# Altium integrated library TI Data Converters Digital to Analog Converter.IntLib: 1533 symbols (part 8 of 99)
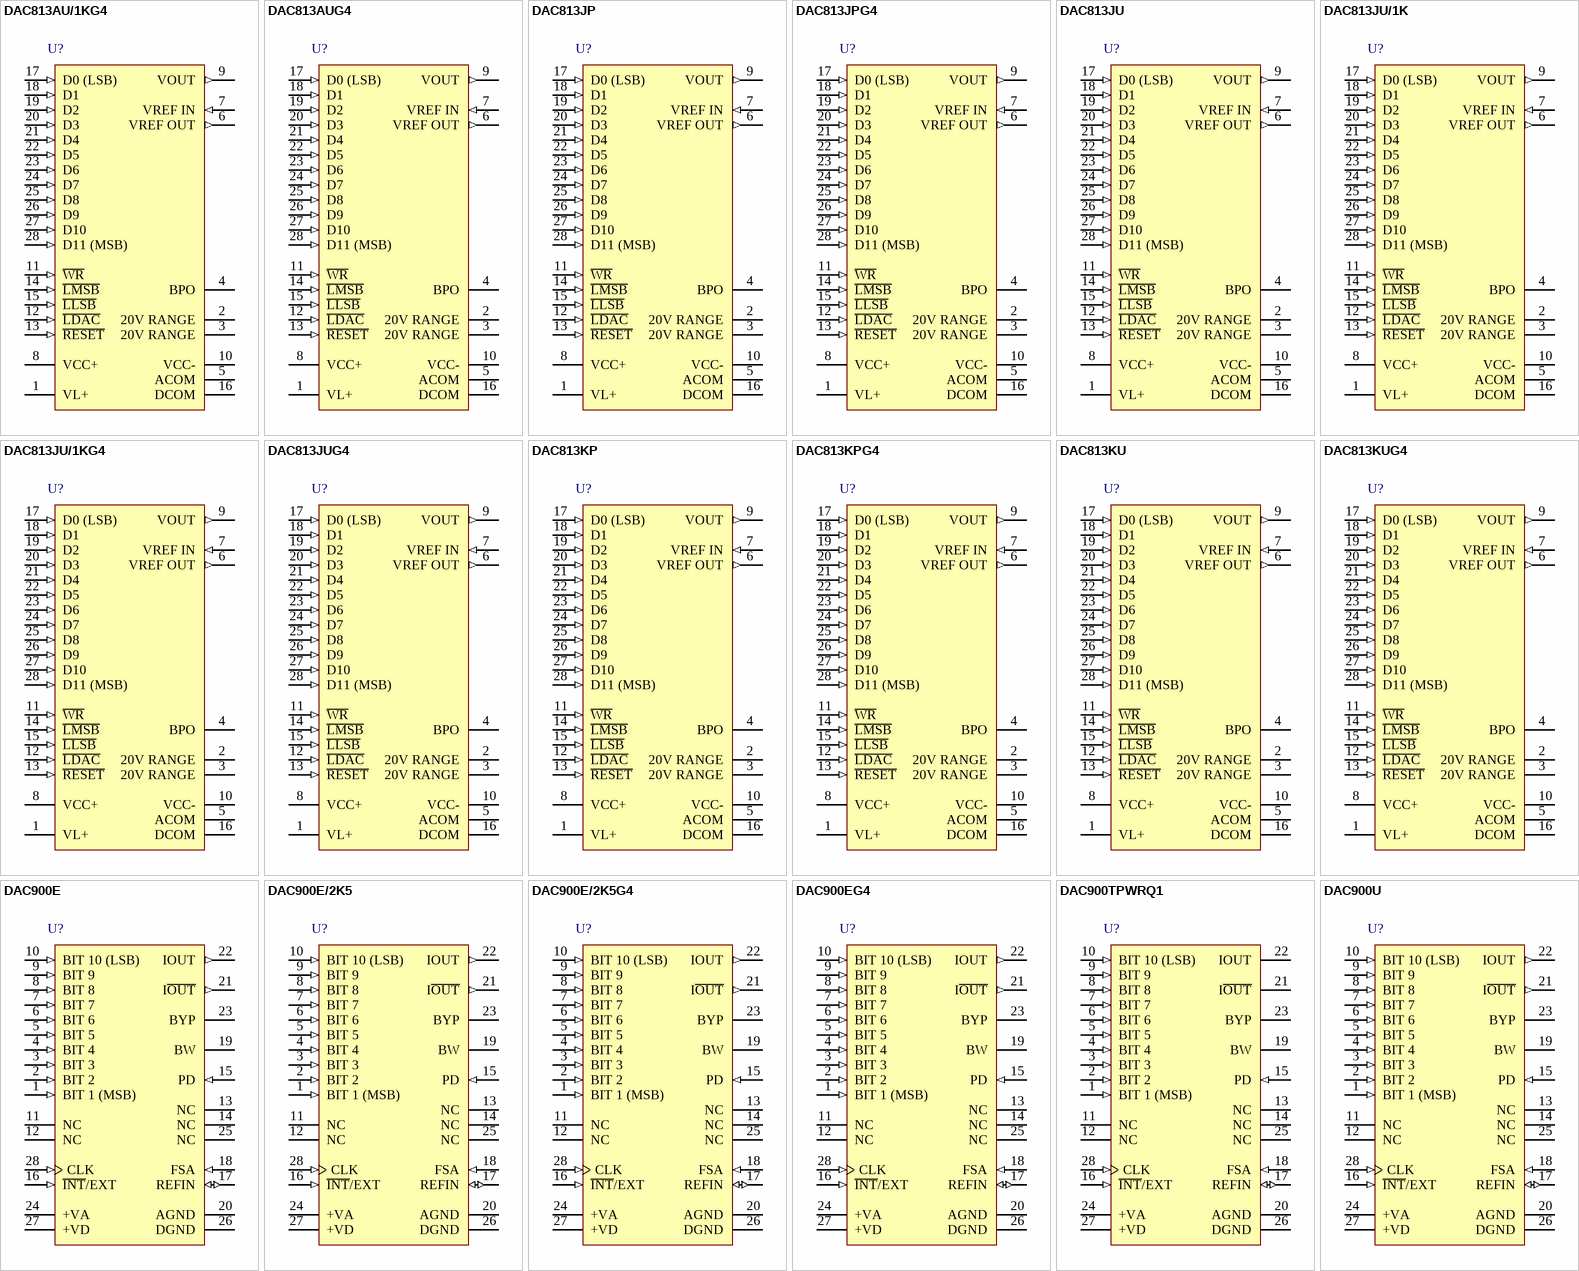
[diagram p80: symbols DAC813AU/1KG4 to DAC900U]

## DAC813AUG4
designator U?
Microprocessor-Compatible 12-Bit D/A Converter, -40 to 85 degC, 28-pin SOIC (DW28), Green (RoHS & no Sb/Br); Manufacturer: Texas Instruments; PartNumber: DAC813AUG4; DAC Channels: 1; DNL(Max)(+/-LSB): 0.75; INL(Max)(+/-LSB): 0.5; Interface: Parallel; Power Consumption(Typ)(mW): 270; Resolution(Bits): 12; Settling Time(us): 4; SubFamily: Precision DAC (=<10MSPS); DatasheetVersion: SBAS004; PackageVersion: 4040000-6/G, 01/2011; PackageReference: DW28; PackageDescription: 28-Pin Plastic Small Outline, Body 17.90 x 7.50 mm, Pitch 1.27 mm; Supplier 1: Digi-Key; Supplier Part Number 1: DAC813AUG4-ND; Supplier 2: Mouser; Supplier Part Number 2: 595-DAC813AUG4; Eco-Plan: Green (RoHS & no Sb/Br); Mounting Technology: Surface Mount; Code_JEDEC: MS-013; ComponentLink1Description: Manufacturer URL; ComponentLink1URL: http://www.ti.com/; ComponentLink2Description: Datasheet; ComponentLink2URL: http://www.ti.com/general/docs/lit/getliterature.tsp?genericPartNumber=DAC813&fileType=pdf; ComponentLink3Description: Package Specification; ComponentLink3URL: http://www.ti.com/lit/ml/mpds175a/mpds175a.pdf
footprint TI-DW28_N (SOIC, 28-Leads, Body 17.9x7.5mm, Pitch 1.27mm, IPC Medium Density)
footprint TI-DW28_L (SOIC, 28-Leads, Body 17.9x7.5mm, Pitch 1.27mm, IPC High Density)
footprint TI-DW28_M (SOIC, 28-Leads, Body 17.9x7.5mm, Pitch 1.27mm, IPC Low Density)
pins: 1 VL+ (power) "Positive supply pin for logic circuits. Connect to +VCC.", 2 20V RANGE "Connect Pin 2 or Pin 3 to Pin 9 (VOUT) for a 20V FSR. Connect both to Pin 9 for a 10V FSR.", 3 20V RANGE "Connect Pin 2 or Pin 3 to Pin 9 (VOUT) for a 20V FSR. Connect both to Pin 9 for a 10V FSR.", 4 BPO "Bipolar offset. Connect to Pin 6 (VREF OUT) through 100 Ohm resistor or 200 Ohm potentiometer for bipolar operation.", 5 ACOM (power) "Analog common, +/-VCC supply return.", 6 VREF OUT (out) "+10V reference output referred to ACOM.", 7 VREF IN (in) "Connected to VREF OUT through a 1kOhm gain adjustment potentiometer or a 500 Ohm resistor.", 8 VCC+ (power) "Analog supply input, nominally +12V to +15V referred to ACOM.", 9 VOUT (out) "D/A converter voltage output.", 10 VCC- (power) "Analog supply input, nominally -12V or -15V referred to ACOM.", 11 ~{WR} (in) "Master enable for L\D\A\C\, L\L\S\B\, and L\M\S\B\. Must be low for data transfer to any latch.", 12 ~{LDAC} (in) "Load DAC. Must be low with W\R\ for data transfer to the D/A latch and simultaneous update of the D/A converter.", 13 ~{RESET} (in) "When low, resets the D/A latch such that a Bipolar Zero output is produced. This control overrides all other data input operations.", 14 ~{LMSB} (in) "Enable for 4-bit input latch of D8-D11 data inputs. NOTE: This logic path is slower than the W\R\ path.", 15 ~{LLSB} (in) "Enable for 8-bit input latch of D0-D7 data inputs. NOTE: This logic path is slower than the W\R\ path.", 16 DCOM (power) "Digital common.", 17 D0 (LSB) (in) "Data Bit 1, LSB.", 18 D1 (in) "Data Bit 1.", 19 D2 (in) "Data Bit 2.", 20 D3 (in) "Data Bit 3.", 21 D4 (in) "Data Bit 4.", 22 D5 (in) "Data Bit 5.", 23 D6 (in) "Data Bit 6.", 24 D7 (in) "Data Bit 7.", 25 D8 (in) "Data Bit 8.", 26 D9 (in) "Data Bit 9.", 27 D10 (in) "Data Bit 10.", 28 D11 (MSB) (in) "Data Bit 11, MSB, positive true."

## DAC813JP
designator U?
Microprocessor-Compatible 12-Bit D/A Converter, 0 to 70 degC, 28-pin DIP (NT28), Green (RoHS & no Sb/Br); Manufacturer: Texas Instruments; PartNumber: DAC813JP; DAC Channels: 1; DNL(Max)(+/-LSB): 0.75; INL(Max)(+/-LSB): 0.5; Interface: Parallel; Power Consumption(Typ)(mW): 270; Resolution(Bits): 12; Settling Time(us): 4; SubFamily: Precision DAC (=<10MSPS); DatasheetVersion: SBAS004; PackageVersion: 4040050/C, 04/2009; PackageReference: NT28; PackageDescription: 28-Pin Plastic Dual-In-Line Package, Body 35.69 x 6.73 mm, Pitch 2.54 mm; Supplier 1: Digi-Key; Supplier Part Number 1: DAC813JP-ND; Supplier 2: Mouser; Supplier Part Number 2: 595-DAC813JP; Eco-Plan: Green (RoHS & no Sb/Br); Mounting Technology: Through Hole; ComponentLink1Description: Manufacturer URL; ComponentLink1URL: http://www.ti.com/; ComponentLink2Description: Datasheet; ComponentLink2URL: http://www.ti.com/general/docs/lit/getliterature.tsp?genericPartNumber=DAC813&fileType=pdf; ComponentLink3Description: Package Specification; ComponentLink3URL: http://www.ti.com/lit/ml/mpdi004a/mpdi004a.pdf
footprint TI-NT28 (DIP, 28-Leads, Body 35.69x6.73mm, Pitch 2.54mm)
pins: 1 VL+ (power) "Positive supply pin for logic circuits. Connect to +VCC.", 2 20V RANGE "Connect Pin 2 or Pin 3 to Pin 9 (VOUT) for a 20V FSR. Connect both to Pin 9 for a 10V FSR.", 3 20V RANGE "Connect Pin 2 or Pin 3 to Pin 9 (VOUT) for a 20V FSR. Connect both to Pin 9 for a 10V FSR.", 4 BPO "Bipolar offset. Connect to Pin 6 (VREF OUT) through 100 Ohm resistor or 200 Ohm potentiometer for bipolar operation.", 5 ACOM (power) "Analog common, +/-VCC supply return.", 6 VREF OUT (out) "+10V reference output referred to ACOM.", 7 VREF IN (in) "Connected to VREF OUT through a 1kOhm gain adjustment potentiometer or a 500 Ohm resistor.", 8 VCC+ (power) "Analog supply input, nominally +12V to +15V referred to ACOM.", 9 VOUT (out) "D/A converter voltage output.", 10 VCC- (power) "Analog supply input, nominally -12V or -15V referred to ACOM.", 11 ~{WR} (in) "Master enable for L\D\A\C\, L\L\S\B\, and L\M\S\B\. Must be low for data transfer to any latch.", 12 ~{LDAC} (in) "Load DAC. Must be low with W\R\ for data transfer to the D/A latch and simultaneous update of the D/A converter.", 13 ~{RESET} (in) "When low, resets the D/A latch such that a Bipolar Zero output is produced. This control overrides all other data input operations.", 14 ~{LMSB} (in) "Enable for 4-bit input latch of D8-D11 data inputs. NOTE: This logic path is slower than the W\R\ path.", 15 ~{LLSB} (in) "Enable for 8-bit input latch of D0-D7 data inputs. NOTE: This logic path is slower than the W\R\ path.", 16 DCOM (power) "Digital common.", 17 D0 (LSB) (in) "Data Bit 1, LSB.", 18 D1 (in) "Data Bit 1.", 19 D2 (in) "Data Bit 2.", 20 D3 (in) "Data Bit 3.", 21 D4 (in) "Data Bit 4.", 22 D5 (in) "Data Bit 5.", 23 D6 (in) "Data Bit 6.", 24 D7 (in) "Data Bit 7.", 25 D8 (in) "Data Bit 8.", 26 D9 (in) "Data Bit 9.", 27 D10 (in) "Data Bit 10.", 28 D11 (MSB) (in) "Data Bit 11, MSB, positive true."

## DAC813JPG4
designator U?
Microprocessor-Compatible 12-Bit D/A Converter, 0 to 70 degC, 28-pin DIP (NT28), Green (RoHS & no Sb/Br); Manufacturer: Texas Instruments; PartNumber: DAC813JPG4; DAC Channels: 1; DNL(Max)(+/-LSB): 0.75; INL(Max)(+/-LSB): 0.5; Interface: Parallel; Power Consumption(Typ)(mW): 270; Resolution(Bits): 12; Settling Time(us): 4; SubFamily: Precision DAC (=<10MSPS); DatasheetVersion: SBAS004; PackageVersion: 4040050/C, 04/2009; PackageReference: NT28; PackageDescription: 28-Pin Plastic Dual-In-Line Package, Body 35.69 x 6.73 mm, Pitch 2.54 mm; Supplier 1: Digi-Key; Supplier Part Number 1: DAC813JPG4-ND; Supplier 2: Mouser; Supplier Part Number 2: 595-DAC813JPG4; Eco-Plan: Green (RoHS & no Sb/Br); Mounting Technology: Through Hole; ComponentLink1Description: Manufacturer URL; ComponentLink1URL: http://www.ti.com/; ComponentLink2Description: Datasheet; ComponentLink2URL: http://www.ti.com/general/docs/lit/getliterature.tsp?genericPartNumber=DAC813&fileType=pdf; ComponentLink3Description: Package Specification; ComponentLink3URL: http://www.ti.com/lit/ml/mpdi004a/mpdi004a.pdf
footprint TI-NT28 (DIP, 28-Leads, Body 35.69x6.73mm, Pitch 2.54mm)
pins: 1 VL+ (power) "Positive supply pin for logic circuits. Connect to +VCC.", 2 20V RANGE "Connect Pin 2 or Pin 3 to Pin 9 (VOUT) for a 20V FSR. Connect both to Pin 9 for a 10V FSR.", 3 20V RANGE "Connect Pin 2 or Pin 3 to Pin 9 (VOUT) for a 20V FSR. Connect both to Pin 9 for a 10V FSR.", 4 BPO "Bipolar offset. Connect to Pin 6 (VREF OUT) through 100 Ohm resistor or 200 Ohm potentiometer for bipolar operation.", 5 ACOM (power) "Analog common, +/-VCC supply return.", 6 VREF OUT (out) "+10V reference output referred to ACOM.", 7 VREF IN (in) "Connected to VREF OUT through a 1kOhm gain adjustment potentiometer or a 500 Ohm resistor.", 8 VCC+ (power) "Analog supply input, nominally +12V to +15V referred to ACOM.", 9 VOUT (out) "D/A converter voltage output.", 10 VCC- (power) "Analog supply input, nominally -12V or -15V referred to ACOM.", 11 ~{WR} (in) "Master enable for L\D\A\C\, L\L\S\B\, and L\M\S\B\. Must be low for data transfer to any latch.", 12 ~{LDAC} (in) "Load DAC. Must be low with W\R\ for data transfer to the D/A latch and simultaneous update of the D/A converter.", 13 ~{RESET} (in) "When low, resets the D/A latch such that a Bipolar Zero output is produced. This control overrides all other data input operations.", 14 ~{LMSB} (in) "Enable for 4-bit input latch of D8-D11 data inputs. NOTE: This logic path is slower than the W\R\ path.", 15 ~{LLSB} (in) "Enable for 8-bit input latch of D0-D7 data inputs. NOTE: This logic path is slower than the W\R\ path.", 16 DCOM (power) "Digital common.", 17 D0 (LSB) (in) "Data Bit 1, LSB.", 18 D1 (in) "Data Bit 1.", 19 D2 (in) "Data Bit 2.", 20 D3 (in) "Data Bit 3.", 21 D4 (in) "Data Bit 4.", 22 D5 (in) "Data Bit 5.", 23 D6 (in) "Data Bit 6.", 24 D7 (in) "Data Bit 7.", 25 D8 (in) "Data Bit 8.", 26 D9 (in) "Data Bit 9.", 27 D10 (in) "Data Bit 10.", 28 D11 (MSB) (in) "Data Bit 11, MSB, positive true."

## DAC813JU
designator U?
Microprocessor-Compatible 12-Bit D/A Converter, 0 to 70 degC, 28-pin SOIC (DW28), Green (RoHS & no Sb/Br); Manufacturer: Texas Instruments; PartNumber: DAC813JU; DAC Channels: 1; DNL(Max)(+/-LSB): 0.75; INL(Max)(+/-LSB): 0.5; Interface: Parallel; Power Consumption(Typ)(mW): 270; Resolution(Bits): 12; Settling Time(us): 4; SubFamily: Precision DAC (=<10MSPS); DatasheetVersion: SBAS004; PackageVersion: 4040000-6/G, 01/2011; PackageReference: DW28; PackageDescription: 28-Pin Plastic Small Outline, Body 17.90 x 7.50 mm, Pitch 1.27 mm; Supplier 1: Digi-Key; Supplier Part Number 1: DAC813JU-ND; Supplier 2: Newark; Supplier Part Number 2: 96K4488; Supplier 3: Mouser; Supplier Part Number 3: 595-DAC813JU; Eco-Plan: Green (RoHS & no Sb/Br); Mounting Technology: Surface Mount; Code_JEDEC: MS-013; ComponentLink1Description: Manufacturer URL; ComponentLink1URL: http://www.ti.com/; ComponentLink2Description: Datasheet; ComponentLink2URL: http://www.ti.com/general/docs/lit/getliterature.tsp?genericPartNumber=DAC813&fileType=pdf; ComponentLink3Description: Package Specification; ComponentLink3URL: http://www.ti.com/lit/ml/mpds175a/mpds175a.pdf
footprint TI-DW28_N (SOIC, 28-Leads, Body 17.9x7.5mm, Pitch 1.27mm, IPC Medium Density)
footprint TI-DW28_L (SOIC, 28-Leads, Body 17.9x7.5mm, Pitch 1.27mm, IPC High Density)
footprint TI-DW28_M (SOIC, 28-Leads, Body 17.9x7.5mm, Pitch 1.27mm, IPC Low Density)
pins: 1 VL+ (power) "Positive supply pin for logic circuits. Connect to +VCC.", 2 20V RANGE "Connect Pin 2 or Pin 3 to Pin 9 (VOUT) for a 20V FSR. Connect both to Pin 9 for a 10V FSR.", 3 20V RANGE "Connect Pin 2 or Pin 3 to Pin 9 (VOUT) for a 20V FSR. Connect both to Pin 9 for a 10V FSR.", 4 BPO "Bipolar offset. Connect to Pin 6 (VREF OUT) through 100 Ohm resistor or 200 Ohm potentiometer for bipolar operation.", 5 ACOM (power) "Analog common, +/-VCC supply return.", 6 VREF OUT (out) "+10V reference output referred to ACOM.", 7 VREF IN (in) "Connected to VREF OUT through a 1kOhm gain adjustment potentiometer or a 500 Ohm resistor.", 8 VCC+ (power) "Analog supply input, nominally +12V to +15V referred to ACOM.", 9 VOUT (out) "D/A converter voltage output.", 10 VCC- (power) "Analog supply input, nominally -12V or -15V referred to ACOM.", 11 ~{WR} (in) "Master enable for L\D\A\C\, L\L\S\B\, and L\M\S\B\. Must be low for data transfer to any latch.", 12 ~{LDAC} (in) "Load DAC. Must be low with W\R\ for data transfer to the D/A latch and simultaneous update of the D/A converter.", 13 ~{RESET} (in) "When low, resets the D/A latch such that a Bipolar Zero output is produced. This control overrides all other data input operations.", 14 ~{LMSB} (in) "Enable for 4-bit input latch of D8-D11 data inputs. NOTE: This logic path is slower than the W\R\ path.", 15 ~{LLSB} (in) "Enable for 8-bit input latch of D0-D7 data inputs. NOTE: This logic path is slower than the W\R\ path.", 16 DCOM (power) "Digital common.", 17 D0 (LSB) (in) "Data Bit 1, LSB.", 18 D1 (in) "Data Bit 1.", 19 D2 (in) "Data Bit 2.", 20 D3 (in) "Data Bit 3.", 21 D4 (in) "Data Bit 4.", 22 D5 (in) "Data Bit 5.", 23 D6 (in) "Data Bit 6.", 24 D7 (in) "Data Bit 7.", 25 D8 (in) "Data Bit 8.", 26 D9 (in) "Data Bit 9.", 27 D10 (in) "Data Bit 10.", 28 D11 (MSB) (in) "Data Bit 11, MSB, positive true."

## DAC813JU/1K
designator U?
Microprocessor-Compatible 12-Bit D/A Converter, 0 to 70 degC, 28-pin SOIC (DW28), Green (RoHS & no Sb/Br); Manufacturer: Texas Instruments; PartNumber: DAC813JU/1K; DAC Channels: 1; DNL(Max)(+/-LSB): 0.75; INL(Max)(+/-LSB): 0.5; Interface: Parallel; Power Consumption(Typ)(mW): 270; Resolution(Bits): 12; Settling Time(us): 4; SubFamily: Precision DAC (=<10MSPS); DatasheetVersion: SBAS004; PackageVersion: 4040000-6/G, 01/2011; PackageReference: DW28; PackageDescription: 28-Pin Plastic Small Outline, Body 17.90 x 7.50 mm, Pitch 1.27 mm; Supplier 1: Digi-Key; Supplier Part Number 1: DAC813JU/1K-ND; Supplier 2: Mouser; Supplier Part Number 2: 595-DAC813JU/1K; Eco-Plan: Green (RoHS & no Sb/Br); Mounting Technology: Surface Mount; Code_JEDEC: MS-013; ComponentLink1Description: Manufacturer URL; ComponentLink1URL: http://www.ti.com/; ComponentLink2Description: Datasheet; ComponentLink2URL: http://www.ti.com/general/docs/lit/getliterature.tsp?genericPartNumber=DAC813&fileType=pdf; ComponentLink3Description: Package Specification; ComponentLink3URL: http://www.ti.com/lit/ml/mpds175a/mpds175a.pdf
footprint TI-DW28_N (SOIC, 28-Leads, Body 17.9x7.5mm, Pitch 1.27mm, IPC Medium Density)
footprint TI-DW28_L (SOIC, 28-Leads, Body 17.9x7.5mm, Pitch 1.27mm, IPC High Density)
footprint TI-DW28_M (SOIC, 28-Leads, Body 17.9x7.5mm, Pitch 1.27mm, IPC Low Density)
pins: 1 VL+ (power) "Positive supply pin for logic circuits. Connect to +VCC.", 2 20V RANGE "Connect Pin 2 or Pin 3 to Pin 9 (VOUT) for a 20V FSR. Connect both to Pin 9 for a 10V FSR.", 3 20V RANGE "Connect Pin 2 or Pin 3 to Pin 9 (VOUT) for a 20V FSR. Connect both to Pin 9 for a 10V FSR.", 4 BPO "Bipolar offset. Connect to Pin 6 (VREF OUT) through 100 Ohm resistor or 200 Ohm potentiometer for bipolar operation.", 5 ACOM (power) "Analog common, +/-VCC supply return.", 6 VREF OUT (out) "+10V reference output referred to ACOM.", 7 VREF IN (in) "Connected to VREF OUT through a 1kOhm gain adjustment potentiometer or a 500 Ohm resistor.", 8 VCC+ (power) "Analog supply input, nominally +12V to +15V referred to ACOM.", 9 VOUT (out) "D/A converter voltage output.", 10 VCC- (power) "Analog supply input, nominally -12V or -15V referred to ACOM.", 11 ~{WR} (in) "Master enable for L\D\A\C\, L\L\S\B\, and L\M\S\B\. Must be low for data transfer to any latch.", 12 ~{LDAC} (in) "Load DAC. Must be low with W\R\ for data transfer to the D/A latch and simultaneous update of the D/A converter.", 13 ~{RESET} (in) "When low, resets the D/A latch such that a Bipolar Zero output is produced. This control overrides all other data input operations.", 14 ~{LMSB} (in) "Enable for 4-bit input latch of D8-D11 data inputs. NOTE: This logic path is slower than the W\R\ path.", 15 ~{LLSB} (in) "Enable for 8-bit input latch of D0-D7 data inputs. NOTE: This logic path is slower than the W\R\ path.", 16 DCOM (power) "Digital common.", 17 D0 (LSB) (in) "Data Bit 1, LSB.", 18 D1 (in) "Data Bit 1.", 19 D2 (in) "Data Bit 2.", 20 D3 (in) "Data Bit 3.", 21 D4 (in) "Data Bit 4.", 22 D5 (in) "Data Bit 5.", 23 D6 (in) "Data Bit 6.", 24 D7 (in) "Data Bit 7.", 25 D8 (in) "Data Bit 8.", 26 D9 (in) "Data Bit 9.", 27 D10 (in) "Data Bit 10.", 28 D11 (MSB) (in) "Data Bit 11, MSB, positive true."

## DAC813JU/1KG4
designator U?
Microprocessor-Compatible 12-Bit D/A Converter, 0 to 70 degC, 28-pin SOIC (DW28), Green (RoHS & no Sb/Br); Manufacturer: Texas Instruments; PartNumber: DAC813JU/1KG4; DAC Channels: 1; DNL(Max)(+/-LSB): 0.75; INL(Max)(+/-LSB): 0.5; Interface: Parallel; Power Consumption(Typ)(mW): 270; Resolution(Bits): 12; Settling Time(us): 4; SubFamily: Precision DAC (=<10MSPS); DatasheetVersion: SBAS004; PackageVersion: 4040000-6/G, 01/2011; PackageReference: DW28; PackageDescription: 28-Pin Plastic Small Outline, Body 17.90 x 7.50 mm, Pitch 1.27 mm; Supplier 1: Digi-Key; Supplier Part Number 1: DAC813JU/1KG4-ND; Supplier 2: Mouser; Supplier Part Number 2: 595-DAC813JU/1KG4; Eco-Plan: Green (RoHS & no Sb/Br); Mounting Technology: Surface Mount; Code_JEDEC: MS-013; ComponentLink1Description: Manufacturer URL; ComponentLink1URL: http://www.ti.com/; ComponentLink2Description: Datasheet; ComponentLink2URL: http://www.ti.com/general/docs/lit/getliterature.tsp?genericPartNumber=DAC813&fileType=pdf; ComponentLink3Description: Package Specification; ComponentLink3URL: http://www.ti.com/lit/ml/mpds175a/mpds175a.pdf
footprint TI-DW28_N (SOIC, 28-Leads, Body 17.9x7.5mm, Pitch 1.27mm, IPC Medium Density)
footprint TI-DW28_L (SOIC, 28-Leads, Body 17.9x7.5mm, Pitch 1.27mm, IPC High Density)
footprint TI-DW28_M (SOIC, 28-Leads, Body 17.9x7.5mm, Pitch 1.27mm, IPC Low Density)
pins: 1 VL+ (power) "Positive supply pin for logic circuits. Connect to +VCC.", 2 20V RANGE "Connect Pin 2 or Pin 3 to Pin 9 (VOUT) for a 20V FSR. Connect both to Pin 9 for a 10V FSR.", 3 20V RANGE "Connect Pin 2 or Pin 3 to Pin 9 (VOUT) for a 20V FSR. Connect both to Pin 9 for a 10V FSR.", 4 BPO "Bipolar offset. Connect to Pin 6 (VREF OUT) through 100 Ohm resistor or 200 Ohm potentiometer for bipolar operation.", 5 ACOM (power) "Analog common, +/-VCC supply return.", 6 VREF OUT (out) "+10V reference output referred to ACOM.", 7 VREF IN (in) "Connected to VREF OUT through a 1kOhm gain adjustment potentiometer or a 500 Ohm resistor.", 8 VCC+ (power) "Analog supply input, nominally +12V to +15V referred to ACOM.", 9 VOUT (out) "D/A converter voltage output.", 10 VCC- (power) "Analog supply input, nominally -12V or -15V referred to ACOM.", 11 ~{WR} (in) "Master enable for L\D\A\C\, L\L\S\B\, and L\M\S\B\. Must be low for data transfer to any latch.", 12 ~{LDAC} (in) "Load DAC. Must be low with W\R\ for data transfer to the D/A latch and simultaneous update of the D/A converter.", 13 ~{RESET} (in) "When low, resets the D/A latch such that a Bipolar Zero output is produced. This control overrides all other data input operations.", 14 ~{LMSB} (in) "Enable for 4-bit input latch of D8-D11 data inputs. NOTE: This logic path is slower than the W\R\ path.", 15 ~{LLSB} (in) "Enable for 8-bit input latch of D0-D7 data inputs. NOTE: This logic path is slower than the W\R\ path.", 16 DCOM (power) "Digital common.", 17 D0 (LSB) (in) "Data Bit 1, LSB.", 18 D1 (in) "Data Bit 1.", 19 D2 (in) "Data Bit 2.", 20 D3 (in) "Data Bit 3.", 21 D4 (in) "Data Bit 4.", 22 D5 (in) "Data Bit 5.", 23 D6 (in) "Data Bit 6.", 24 D7 (in) "Data Bit 7.", 25 D8 (in) "Data Bit 8.", 26 D9 (in) "Data Bit 9.", 27 D10 (in) "Data Bit 10.", 28 D11 (MSB) (in) "Data Bit 11, MSB, positive true."

## DAC813JUG4
designator U?
Microprocessor-Compatible 12-Bit D/A Converter, 0 to 70 degC, 28-pin SOIC (DW28), Green (RoHS & no Sb/Br); Manufacturer: Texas Instruments; PartNumber: DAC813JUG4; DAC Channels: 1; DNL(Max)(+/-LSB): 0.75; INL(Max)(+/-LSB): 0.5; Interface: Parallel; Power Consumption(Typ)(mW): 270; Resolution(Bits): 12; Settling Time(us): 4; SubFamily: Precision DAC (=<10MSPS); DatasheetVersion: SBAS004; PackageVersion: 4040000-6/G, 01/2011; PackageReference: DW28; PackageDescription: 28-Pin Plastic Small Outline, Body 17.90 x 7.50 mm, Pitch 1.27 mm; Supplier 1: Digi-Key; Supplier Part Number 1: DAC813JUG4-ND; Supplier 2: Mouser; Supplier Part Number 2: 595-DAC813JUG4; Eco-Plan: Green (RoHS & no Sb/Br); Mounting Technology: Surface Mount; Code_JEDEC: MS-013; ComponentLink1Description: Manufacturer URL; ComponentLink1URL: http://www.ti.com/; ComponentLink2Description: Datasheet; ComponentLink2URL: http://www.ti.com/general/docs/lit/getliterature.tsp?genericPartNumber=DAC813&fileType=pdf; ComponentLink3Description: Package Specification; ComponentLink3URL: http://www.ti.com/lit/ml/mpds175a/mpds175a.pdf
footprint TI-DW28_N (SOIC, 28-Leads, Body 17.9x7.5mm, Pitch 1.27mm, IPC Medium Density)
footprint TI-DW28_L (SOIC, 28-Leads, Body 17.9x7.5mm, Pitch 1.27mm, IPC High Density)
footprint TI-DW28_M (SOIC, 28-Leads, Body 17.9x7.5mm, Pitch 1.27mm, IPC Low Density)
pins: 1 VL+ (power) "Positive supply pin for logic circuits. Connect to +VCC.", 2 20V RANGE "Connect Pin 2 or Pin 3 to Pin 9 (VOUT) for a 20V FSR. Connect both to Pin 9 for a 10V FSR.", 3 20V RANGE "Connect Pin 2 or Pin 3 to Pin 9 (VOUT) for a 20V FSR. Connect both to Pin 9 for a 10V FSR.", 4 BPO "Bipolar offset. Connect to Pin 6 (VREF OUT) through 100 Ohm resistor or 200 Ohm potentiometer for bipolar operation.", 5 ACOM (power) "Analog common, +/-VCC supply return.", 6 VREF OUT (out) "+10V reference output referred to ACOM.", 7 VREF IN (in) "Connected to VREF OUT through a 1kOhm gain adjustment potentiometer or a 500 Ohm resistor.", 8 VCC+ (power) "Analog supply input, nominally +12V to +15V referred to ACOM.", 9 VOUT (out) "D/A converter voltage output.", 10 VCC- (power) "Analog supply input, nominally -12V or -15V referred to ACOM.", 11 ~{WR} (in) "Master enable for L\D\A\C\, L\L\S\B\, and L\M\S\B\. Must be low for data transfer to any latch.", 12 ~{LDAC} (in) "Load DAC. Must be low with W\R\ for data transfer to the D/A latch and simultaneous update of the D/A converter.", 13 ~{RESET} (in) "When low, resets the D/A latch such that a Bipolar Zero output is produced. This control overrides all other data input operations.", 14 ~{LMSB} (in) "Enable for 4-bit input latch of D8-D11 data inputs. NOTE: This logic path is slower than the W\R\ path.", 15 ~{LLSB} (in) "Enable for 8-bit input latch of D0-D7 data inputs. NOTE: This logic path is slower than the W\R\ path.", 16 DCOM (power) "Digital common.", 17 D0 (LSB) (in) "Data Bit 1, LSB.", 18 D1 (in) "Data Bit 1.", 19 D2 (in) "Data Bit 2.", 20 D3 (in) "Data Bit 3.", 21 D4 (in) "Data Bit 4.", 22 D5 (in) "Data Bit 5.", 23 D6 (in) "Data Bit 6.", 24 D7 (in) "Data Bit 7.", 25 D8 (in) "Data Bit 8.", 26 D9 (in) "Data Bit 9.", 27 D10 (in) "Data Bit 10.", 28 D11 (MSB) (in) "Data Bit 11, MSB, positive true."

## DAC813KP
designator U?
Microprocessor-Compatible 12-Bit D/A Converter, 0 to 70 degC, 28-pin DIP (NT28), Green (RoHS & no Sb/Br); Manufacturer: Texas Instruments; PartNumber: DAC813KP; DAC Channels: 1; DNL(Max)(+/-LSB): 0.5; INL(Max)(+/-LSB): 0.25; Interface: Parallel; Power Consumption(Typ)(mW): 270; Resolution(Bits): 12; Settling Time(us): 4; SubFamily: Precision DAC (=<10MSPS); DatasheetVersion: SBAS004; PackageVersion: 4040050/C, 04/2009; PackageReference: NT28; PackageDescription: 28-Pin Plastic Dual-In-Line Package, Body 35.69 x 6.73 mm, Pitch 2.54 mm; Supplier 1: Digi-Key; Supplier Part Number 1: DAC813KP-ND; Supplier 2: Farnell; Supplier Part Number 2: 1460256; Supplier 3: Mouser; Supplier Part Number 3: 595-DAC813KP; Eco-Plan: Green (RoHS & no Sb/Br); Mounting Technology: Through Hole; ComponentLink1Description: Manufacturer URL; ComponentLink1URL: http://www.ti.com/; ComponentLink2Description: Datasheet; ComponentLink2URL: http://www.ti.com/general/docs/lit/getliterature.tsp?genericPartNumber=DAC813&fileType=pdf; ComponentLink3Description: Package Specification; ComponentLink3URL: http://www.ti.com/lit/ml/mpdi004a/mpdi004a.pdf
footprint TI-NT28 (DIP, 28-Leads, Body 35.69x6.73mm, Pitch 2.54mm)
pins: 1 VL+ (power) "Positive supply pin for logic circuits. Connect to +VCC.", 2 20V RANGE "Connect Pin 2 or Pin 3 to Pin 9 (VOUT) for a 20V FSR. Connect both to Pin 9 for a 10V FSR.", 3 20V RANGE "Connect Pin 2 or Pin 3 to Pin 9 (VOUT) for a 20V FSR. Connect both to Pin 9 for a 10V FSR.", 4 BPO "Bipolar offset. Connect to Pin 6 (VREF OUT) through 100 Ohm resistor or 200 Ohm potentiometer for bipolar operation.", 5 ACOM (power) "Analog common, +/-VCC supply return.", 6 VREF OUT (out) "+10V reference output referred to ACOM.", 7 VREF IN (in) "Connected to VREF OUT through a 1kOhm gain adjustment potentiometer or a 500 Ohm resistor.", 8 VCC+ (power) "Analog supply input, nominally +12V to +15V referred to ACOM.", 9 VOUT (out) "D/A converter voltage output.", 10 VCC- (power) "Analog supply input, nominally -12V or -15V referred to ACOM.", 11 ~{WR} (in) "Master enable for L\D\A\C\, L\L\S\B\, and L\M\S\B\. Must be low for data transfer to any latch.", 12 ~{LDAC} (in) "Load DAC. Must be low with W\R\ for data transfer to the D/A latch and simultaneous update of the D/A converter.", 13 ~{RESET} (in) "When low, resets the D/A latch such that a Bipolar Zero output is produced. This control overrides all other data input operations.", 14 ~{LMSB} (in) "Enable for 4-bit input latch of D8-D11 data inputs. NOTE: This logic path is slower than the W\R\ path.", 15 ~{LLSB} (in) "Enable for 8-bit input latch of D0-D7 data inputs. NOTE: This logic path is slower than the W\R\ path.", 16 DCOM (power) "Digital common.", 17 D0 (LSB) (in) "Data Bit 1, LSB.", 18 D1 (in) "Data Bit 1.", 19 D2 (in) "Data Bit 2.", 20 D3 (in) "Data Bit 3.", 21 D4 (in) "Data Bit 4.", 22 D5 (in) "Data Bit 5.", 23 D6 (in) "Data Bit 6.", 24 D7 (in) "Data Bit 7.", 25 D8 (in) "Data Bit 8.", 26 D9 (in) "Data Bit 9.", 27 D10 (in) "Data Bit 10.", 28 D11 (MSB) (in) "Data Bit 11, MSB, positive true."

## DAC813KPG4
designator U?
Microprocessor-Compatible 12-Bit D/A Converter, 0 to 70 degC, 28-pin DIP (NT28), Green (RoHS & no Sb/Br); Manufacturer: Texas Instruments; PartNumber: DAC813KPG4; DAC Channels: 1; DNL(Max)(+/-LSB): 0.5; INL(Max)(+/-LSB): 0.25; Interface: Parallel; Power Consumption(Typ)(mW): 270; Resolution(Bits): 12; Settling Time(us): 4; SubFamily: Precision DAC (=<10MSPS); DatasheetVersion: SBAS004; PackageVersion: 4040050/C, 04/2009; PackageReference: NT28; PackageDescription: 28-Pin Plastic Dual-In-Line Package, Body 35.69 x 6.73 mm, Pitch 2.54 mm; Supplier 1: Digi-Key; Supplier Part Number 1: DAC813KPG4-ND; Supplier 2: Mouser; Supplier Part Number 2: 595-DAC813KPG4; Eco-Plan: Green (RoHS & no Sb/Br); Mounting Technology: Through Hole; ComponentLink1Description: Manufacturer URL; ComponentLink1URL: http://www.ti.com/; ComponentLink2Description: Datasheet; ComponentLink2URL: http://www.ti.com/general/docs/lit/getliterature.tsp?genericPartNumber=DAC813&fileType=pdf; ComponentLink3Description: Package Specification; ComponentLink3URL: http://www.ti.com/lit/ml/mpdi004a/mpdi004a.pdf
footprint TI-NT28 (DIP, 28-Leads, Body 35.69x6.73mm, Pitch 2.54mm)
pins: 1 VL+ (power) "Positive supply pin for logic circuits. Connect to +VCC.", 2 20V RANGE "Connect Pin 2 or Pin 3 to Pin 9 (VOUT) for a 20V FSR. Connect both to Pin 9 for a 10V FSR.", 3 20V RANGE "Connect Pin 2 or Pin 3 to Pin 9 (VOUT) for a 20V FSR. Connect both to Pin 9 for a 10V FSR.", 4 BPO "Bipolar offset. Connect to Pin 6 (VREF OUT) through 100 Ohm resistor or 200 Ohm potentiometer for bipolar operation.", 5 ACOM (power) "Analog common, +/-VCC supply return.", 6 VREF OUT (out) "+10V reference output referred to ACOM.", 7 VREF IN (in) "Connected to VREF OUT through a 1kOhm gain adjustment potentiometer or a 500 Ohm resistor.", 8 VCC+ (power) "Analog supply input, nominally +12V to +15V referred to ACOM.", 9 VOUT (out) "D/A converter voltage output.", 10 VCC- (power) "Analog supply input, nominally -12V or -15V referred to ACOM.", 11 ~{WR} (in) "Master enable for L\D\A\C\, L\L\S\B\, and L\M\S\B\. Must be low for data transfer to any latch.", 12 ~{LDAC} (in) "Load DAC. Must be low with W\R\ for data transfer to the D/A latch and simultaneous update of the D/A converter.", 13 ~{RESET} (in) "When low, resets the D/A latch such that a Bipolar Zero output is produced. This control overrides all other data input operations.", 14 ~{LMSB} (in) "Enable for 4-bit input latch of D8-D11 data inputs. NOTE: This logic path is slower than the W\R\ path.", 15 ~{LLSB} (in) "Enable for 8-bit input latch of D0-D7 data inputs. NOTE: This logic path is slower than the W\R\ path.", 16 DCOM (power) "Digital common.", 17 D0 (LSB) (in) "Data Bit 1, LSB.", 18 D1 (in) "Data Bit 1.", 19 D2 (in) "Data Bit 2.", 20 D3 (in) "Data Bit 3.", 21 D4 (in) "Data Bit 4.", 22 D5 (in) "Data Bit 5.", 23 D6 (in) "Data Bit 6.", 24 D7 (in) "Data Bit 7.", 25 D8 (in) "Data Bit 8.", 26 D9 (in) "Data Bit 9.", 27 D10 (in) "Data Bit 10.", 28 D11 (MSB) (in) "Data Bit 11, MSB, positive true."

## DAC813KU
designator U?
Microprocessor-Compatible 12-Bit D/A Converter, 0 to 70 degC, 28-pin SOIC (DW28), Green (RoHS & no Sb/Br); Manufacturer: Texas Instruments; PartNumber: DAC813KU; DAC Channels: 1; DNL(Max)(+/-LSB): 0.5; INL(Max)(+/-LSB): 0.25; Interface: Parallel; Power Consumption(Typ)(mW): 270; Resolution(Bits): 12; Settling Time(us): 4; SubFamily: Precision DAC (=<10MSPS); DatasheetVersion: SBAS004; PackageVersion: 4040000-6/G, 01/2011; PackageReference: DW28; PackageDescription: 28-Pin Plastic Small Outline, Body 17.90 x 7.50 mm, Pitch 1.27 mm; Supplier 1: Digi-Key; Supplier Part Number 1: 296-24946-5-ND; Supplier 2: Mouser; Supplier Part Number 2: 595-DAC813KU; Eco-Plan: Green (RoHS & no Sb/Br); Mounting Technology: Surface Mount; Code_JEDEC: MS-013; ComponentLink1Description: Manufacturer URL; ComponentLink1URL: http://www.ti.com/; ComponentLink2Description: Datasheet; ComponentLink2URL: http://www.ti.com/general/docs/lit/getliterature.tsp?genericPartNumber=DAC813&fileType=pdf; ComponentLink3Description: Package Specification; ComponentLink3URL: http://www.ti.com/lit/ml/mpds175a/mpds175a.pdf
footprint TI-DW28_N (SOIC, 28-Leads, Body 17.9x7.5mm, Pitch 1.27mm, IPC Medium Density)
footprint TI-DW28_L (SOIC, 28-Leads, Body 17.9x7.5mm, Pitch 1.27mm, IPC High Density)
footprint TI-DW28_M (SOIC, 28-Leads, Body 17.9x7.5mm, Pitch 1.27mm, IPC Low Density)
pins: 1 VL+ (power) "Positive supply pin for logic circuits. Connect to +VCC.", 2 20V RANGE "Connect Pin 2 or Pin 3 to Pin 9 (VOUT) for a 20V FSR. Connect both to Pin 9 for a 10V FSR.", 3 20V RANGE "Connect Pin 2 or Pin 3 to Pin 9 (VOUT) for a 20V FSR. Connect both to Pin 9 for a 10V FSR.", 4 BPO "Bipolar offset. Connect to Pin 6 (VREF OUT) through 100 Ohm resistor or 200 Ohm potentiometer for bipolar operation.", 5 ACOM (power) "Analog common, +/-VCC supply return.", 6 VREF OUT (out) "+10V reference output referred to ACOM.", 7 VREF IN (in) "Connected to VREF OUT through a 1kOhm gain adjustment potentiometer or a 500 Ohm resistor.", 8 VCC+ (power) "Analog supply input, nominally +12V to +15V referred to ACOM.", 9 VOUT (out) "D/A converter voltage output.", 10 VCC- (power) "Analog supply input, nominally -12V or -15V referred to ACOM.", 11 ~{WR} (in) "Master enable for L\D\A\C\, L\L\S\B\, and L\M\S\B\. Must be low for data transfer to any latch.", 12 ~{LDAC} (in) "Load DAC. Must be low with W\R\ for data transfer to the D/A latch and simultaneous update of the D/A converter.", 13 ~{RESET} (in) "When low, resets the D/A latch such that a Bipolar Zero output is produced. This control overrides all other data input operations.", 14 ~{LMSB} (in) "Enable for 4-bit input latch of D8-D11 data inputs. NOTE: This logic path is slower than the W\R\ path.", 15 ~{LLSB} (in) "Enable for 8-bit input latch of D0-D7 data inputs. NOTE: This logic path is slower than the W\R\ path.", 16 DCOM (power) "Digital common.", 17 D0 (LSB) (in) "Data Bit 1, LSB.", 18 D1 (in) "Data Bit 1.", 19 D2 (in) "Data Bit 2.", 20 D3 (in) "Data Bit 3.", 21 D4 (in) "Data Bit 4.", 22 D5 (in) "Data Bit 5.", 23 D6 (in) "Data Bit 6.", 24 D7 (in) "Data Bit 7.", 25 D8 (in) "Data Bit 8.", 26 D9 (in) "Data Bit 9.", 27 D10 (in) "Data Bit 10.", 28 D11 (MSB) (in) "Data Bit 11, MSB, positive true."

## DAC813KUG4
designator U?
Microprocessor-Compatible 12-Bit D/A Converter, 0 to 70 degC, 28-pin SOIC (DW28), Green (RoHS & no Sb/Br); Manufacturer: Texas Instruments; PartNumber: DAC813KUG4; DAC Channels: 1; DNL(Max)(+/-LSB): 0.5; INL(Max)(+/-LSB): 0.25; Interface: Parallel; Power Consumption(Typ)(mW): 270; Resolution(Bits): 12; Settling Time(us): 4; SubFamily: Precision DAC (=<10MSPS); DatasheetVersion: SBAS004; PackageVersion: 4040000-6/G, 01/2011; PackageReference: DW28; PackageDescription: 28-Pin Plastic Small Outline, Body 17.90 x 7.50 mm, Pitch 1.27 mm; Supplier 1: Digi-Key; Supplier Part Number 1: DAC813KUG4-ND; Supplier 2: Mouser; Supplier Part Number 2: 595-DAC813KUG4; Eco-Plan: Green (RoHS & no Sb/Br); Mounting Technology: Surface Mount; Code_JEDEC: MS-013; ComponentLink1Description: Manufacturer URL; ComponentLink1URL: http://www.ti.com/; ComponentLink2Description: Datasheet; ComponentLink2URL: http://www.ti.com/general/docs/lit/getliterature.tsp?genericPartNumber=DAC813&fileType=pdf; ComponentLink3Description: Package Specification; ComponentLink3URL: http://www.ti.com/lit/ml/mpds175a/mpds175a.pdf
footprint TI-DW28_N (SOIC, 28-Leads, Body 17.9x7.5mm, Pitch 1.27mm, IPC Medium Density)
footprint TI-DW28_L (SOIC, 28-Leads, Body 17.9x7.5mm, Pitch 1.27mm, IPC High Density)
footprint TI-DW28_M (SOIC, 28-Leads, Body 17.9x7.5mm, Pitch 1.27mm, IPC Low Density)
pins: 1 VL+ (power) "Positive supply pin for logic circuits. Connect to +VCC.", 2 20V RANGE "Connect Pin 2 or Pin 3 to Pin 9 (VOUT) for a 20V FSR. Connect both to Pin 9 for a 10V FSR.", 3 20V RANGE "Connect Pin 2 or Pin 3 to Pin 9 (VOUT) for a 20V FSR. Connect both to Pin 9 for a 10V FSR.", 4 BPO "Bipolar offset. Connect to Pin 6 (VREF OUT) through 100 Ohm resistor or 200 Ohm potentiometer for bipolar operation.", 5 ACOM (power) "Analog common, +/-VCC supply return.", 6 VREF OUT (out) "+10V reference output referred to ACOM.", 7 VREF IN (in) "Connected to VREF OUT through a 1kOhm gain adjustment potentiometer or a 500 Ohm resistor.", 8 VCC+ (power) "Analog supply input, nominally +12V to +15V referred to ACOM.", 9 VOUT (out) "D/A converter voltage output.", 10 VCC- (power) "Analog supply input, nominally -12V or -15V referred to ACOM.", 11 ~{WR} (in) "Master enable for L\D\A\C\, L\L\S\B\, and L\M\S\B\. Must be low for data transfer to any latch.", 12 ~{LDAC} (in) "Load DAC. Must be low with W\R\ for data transfer to the D/A latch and simultaneous update of the D/A converter.", 13 ~{RESET} (in) "When low, resets the D/A latch such that a Bipolar Zero output is produced. This control overrides all other data input operations.", 14 ~{LMSB} (in) "Enable for 4-bit input latch of D8-D11 data inputs. NOTE: This logic path is slower than the W\R\ path.", 15 ~{LLSB} (in) "Enable for 8-bit input latch of D0-D7 data inputs. NOTE: This logic path is slower than the W\R\ path.", 16 DCOM (power) "Digital common.", 17 D0 (LSB) (in) "Data Bit 1, LSB.", 18 D1 (in) "Data Bit 1.", 19 D2 (in) "Data Bit 2.", 20 D3 (in) "Data Bit 3.", 21 D4 (in) "Data Bit 4.", 22 D5 (in) "Data Bit 5.", 23 D6 (in) "Data Bit 6.", 24 D7 (in) "Data Bit 7.", 25 D8 (in) "Data Bit 8.", 26 D9 (in) "Data Bit 9.", 27 D10 (in) "Data Bit 10.", 28 D11 (MSB) (in) "Data Bit 11, MSB, positive true."

## DAC900E
designator U?
10-Bit, 165 MSPS SpeedPlus(TM) DAC Scalable Current Outputs between 2 to 20 mA, -40 to 85 degC, 28-pin SOP (PW28), Green (RoHS & no Sb/Br); Manufacturer: Texas Instruments; PartNumber: DAC900E; DAC Channels: 1; DNL(Max)(+/-LSB): 0.5; Interface: Parallel CMOS; Power Consumption(Typ)(mW): 170; Resolution(Bits): 10; Settling Time(us): 0.03; SFDR(dB): 76; SubFamily: High Speed DAC (>10MSPS); DatasheetVersion: SBAS093B; PackageVersion: 4040064-7/G, 02/2011; PackageReference: PW28; PackageDescription: 28-Pin Plastic Small Outline, Body 9.7 x 4.4 mm, Pitch 0.65 mm; Supplier 1: Digi-Key; Supplier Part Number 1: DAC900E-ND; Supplier 2: Farnell; Supplier Part Number 2: 1295978; Supplier 3: Newark; Supplier Part Number 3: 74C9305; Supplier 4: Mouser; Supplier Part Number 4: 595-DAC900E; Eco-Plan: Green (RoHS & no Sb/Br); INL(Max)(+/-LSB): 1; Mounting Technology: Surface Mount; Code_JEDEC: MO-153; ComponentLink1Description: Manufacturer URL; ComponentLink1URL: http://www.ti.com/; ComponentLink2Description: Datasheet; ComponentLink2URL: http://www.ti.com/general/docs/lit/getliterature.tsp?genericPartNumber=DAC900&fileType=pdf; ComponentLink3Description: Package Specification; ComponentLink3URL: http://www.ti.com/litv/pdf/mpds364
footprint TI-PW28_N (SOP, 28-Leads, Body 9.7x4.4mm, Pitch 0.65mm, IPC Medium Density)
footprint TI-PW28_L (SOP, 28-Leads, Body 9.7x4.4mm, Pitch 0.65mm, IPC High Density)
footprint TI-PW28_M (SOP, 28-Leads, Body 9.7x4.4mm, Pitch 0.65mm, IPC Low Density)
pins: 1 BIT 1 (MSB) (in) "Data Bit 1 (D9), MSB", 2 BIT 2 (in) "Data Bit 2 (D8)", 3 BIT 3 (in) "Data Bit 3 (D7)", 4 BIT 4 (in) "Data Bit 4 (D6)", 5 BIT 5 (in) "Data Bit 5 (D5)", 6 BIT 6 (in) "Data Bit 6 (D4)", 7 BIT 7 (in) "Data Bit 7 (D3)", 8 BIT 8 (in) "Data Bit 8 (D2)", 9 BIT 9 (in) "Data Bit 9 (D1)", 10 BIT 10 (LSB) (in) "Data Bit 10 (D0), LSB", 11 NC "No Connection", 12 NC "No Connection", 13 NC "No Connection", 14 NC "No Connection", 15 PD (in) "Power Down, Control Input; Active HIGH. Contains internal pull-down circuit; may be left unconnected if not used.", 16 ~{INT}/EXT (in) "Reference Select Pin; Internal ( = 0) or External ( = 1) Reference Operation.", 17 REFIN (io) "Reference Input/Ouput. See Applications section for further details.", 18 FSA (in) "Full-Scale Output Adjust", 19 BW "Bandwidth/Noise Reduction Pin: Bypass with 0.1uF to +VA  for Optimum Performance.", 20 AGND (power) "Analog Ground", 21 I~{OUT} (out) "Complementary DAC Current Output", 22 IOUT (out) "DAC Current Output", 23 BYP "Bypass Node: Use 0.1uF to AGND", 24 +VA (power) "Analog Supply Voltage, 2.7V to 5.5V", 25 NC "No Connection", 26 DGND (power) "Digital Ground", 27 +VD (power) "Digital Supply Voltage, 2.7V to 5.5V", 28 CLK (in) "Clock Input"

## DAC900E/2K5
designator U?
10-Bit, 165 MSPS SpeedPlus(TM) DAC Scalable Current Outputs between 2 to 20 mA, -40 to 85 degC, 28-pin SOP (PW28), Green (RoHS & no Sb/Br); Manufacturer: Texas Instruments; PartNumber: DAC900E/2K5; DAC Channels: 1; DNL(Max)(+/-LSB): 0.5; Interface: Parallel CMOS; Power Consumption(Typ)(mW): 170; Resolution(Bits): 10; Settling Time(us): 0.03; SFDR(dB): 76; SubFamily: High Speed DAC (>10MSPS); DatasheetVersion: SBAS093B; PackageVersion: 4040064-7/G, 02/2011; PackageReference: PW28; PackageDescription: 28-Pin Plastic Small Outline, Body 9.7 x 4.4 mm, Pitch 0.65 mm; Supplier 1: Digi-Key; Supplier Part Number 1: DAC900E/2K5-ND; Supplier 2: Mouser; Supplier Part Number 2: 595-DAC900E/2K5; Eco-Plan: Green (RoHS & no Sb/Br); INL(Max)(+/-LSB): 1; Mounting Technology: Surface Mount; Code_JEDEC: MO-153; ComponentLink1Description: Manufacturer URL; ComponentLink1URL: http://www.ti.com/; ComponentLink2Description: Datasheet; ComponentLink2URL: http://www.ti.com/general/docs/lit/getliterature.tsp?genericPartNumber=DAC900&fileType=pdf; ComponentLink3Description: Package Specification; ComponentLink3URL: http://www.ti.com/litv/pdf/mpds364
footprint TI-PW28_N (SOP, 28-Leads, Body 9.7x4.4mm, Pitch 0.65mm, IPC Medium Density)
footprint TI-PW28_L (SOP, 28-Leads, Body 9.7x4.4mm, Pitch 0.65mm, IPC High Density)
footprint TI-PW28_M (SOP, 28-Leads, Body 9.7x4.4mm, Pitch 0.65mm, IPC Low Density)
pins: 1 BIT 1 (MSB) (in) "Data Bit 1 (D9), MSB", 2 BIT 2 (in) "Data Bit 2 (D8)", 3 BIT 3 (in) "Data Bit 3 (D7)", 4 BIT 4 (in) "Data Bit 4 (D6)", 5 BIT 5 (in) "Data Bit 5 (D5)", 6 BIT 6 (in) "Data Bit 6 (D4)", 7 BIT 7 (in) "Data Bit 7 (D3)", 8 BIT 8 (in) "Data Bit 8 (D2)", 9 BIT 9 (in) "Data Bit 9 (D1)", 10 BIT 10 (LSB) (in) "Data Bit 10 (D0), LSB", 11 NC "No Connection", 12 NC "No Connection", 13 NC "No Connection", 14 NC "No Connection", 15 PD (in) "Power Down, Control Input; Active HIGH. Contains internal pull-down circuit; may be left unconnected if not used.", 16 ~{INT}/EXT (in) "Reference Select Pin; Internal ( = 0) or External ( = 1) Reference Operation.", 17 REFIN (io) "Reference Input/Ouput. See Applications section for further details.", 18 FSA (in) "Full-Scale Output Adjust", 19 BW "Bandwidth/Noise Reduction Pin: Bypass with 0.1uF to +VA  for Optimum Performance.", 20 AGND (power) "Analog Ground", 21 I~{OUT} (out) "Complementary DAC Current Output", 22 IOUT (out) "DAC Current Output", 23 BYP "Bypass Node: Use 0.1uF to AGND", 24 +VA (power) "Analog Supply Voltage, 2.7V to 5.5V", 25 NC "No Connection", 26 DGND (power) "Digital Ground", 27 +VD (power) "Digital Supply Voltage, 2.7V to 5.5V", 28 CLK (in) "Clock Input"

## DAC900E/2K5G4
designator U?
10-Bit, 165 MSPS SpeedPlus(TM) DAC Scalable Current Outputs between 2 to 20 mA, -40 to 85 degC, 28-pin SOP (PW28), Green (RoHS & no Sb/Br); Manufacturer: Texas Instruments; PartNumber: DAC900E/2K5G4; DAC Channels: 1; DNL(Max)(+/-LSB): 0.5; Interface: Parallel CMOS; Power Consumption(Typ)(mW): 170; Resolution(Bits): 10; Settling Time(us): 0.03; SFDR(dB): 76; SubFamily: High Speed DAC (>10MSPS); DatasheetVersion: SBAS093B; PackageVersion: 4040064-7/G, 02/2011; PackageReference: PW28; PackageDescription: 28-Pin Plastic Small Outline, Body 9.7 x 4.4 mm, Pitch 0.65 mm; Supplier 1: Digi-Key; Supplier Part Number 1: DAC900E/2K5G4-ND; Supplier 2: Mouser; Supplier Part Number 2: 595-DAC900E/2K5G4; Eco-Plan: Green (RoHS & no Sb/Br); INL(Max)(+/-LSB): 1; Mounting Technology: Surface Mount; Code_JEDEC: MO-153; ComponentLink1Description: Manufacturer URL; ComponentLink1URL: http://www.ti.com/; ComponentLink2Description: Datasheet; ComponentLink2URL: http://www.ti.com/general/docs/lit/getliterature.tsp?genericPartNumber=DAC900&fileType=pdf; ComponentLink3Description: Package Specification; ComponentLink3URL: http://www.ti.com/litv/pdf/mpds364
footprint TI-PW28_N (SOP, 28-Leads, Body 9.7x4.4mm, Pitch 0.65mm, IPC Medium Density)
footprint TI-PW28_L (SOP, 28-Leads, Body 9.7x4.4mm, Pitch 0.65mm, IPC High Density)
footprint TI-PW28_M (SOP, 28-Leads, Body 9.7x4.4mm, Pitch 0.65mm, IPC Low Density)
pins: 1 BIT 1 (MSB) (in) "Data Bit 1 (D9), MSB", 2 BIT 2 (in) "Data Bit 2 (D8)", 3 BIT 3 (in) "Data Bit 3 (D7)", 4 BIT 4 (in) "Data Bit 4 (D6)", 5 BIT 5 (in) "Data Bit 5 (D5)", 6 BIT 6 (in) "Data Bit 6 (D4)", 7 BIT 7 (in) "Data Bit 7 (D3)", 8 BIT 8 (in) "Data Bit 8 (D2)", 9 BIT 9 (in) "Data Bit 9 (D1)", 10 BIT 10 (LSB) (in) "Data Bit 10 (D0), LSB", 11 NC "No Connection", 12 NC "No Connection", 13 NC "No Connection", 14 NC "No Connection", 15 PD (in) "Power Down, Control Input; Active HIGH. Contains internal pull-down circuit; may be left unconnected if not used.", 16 ~{INT}/EXT (in) "Reference Select Pin; Internal ( = 0) or External ( = 1) Reference Operation.", 17 REFIN (io) "Reference Input/Ouput. See Applications section for further details.", 18 FSA (in) "Full-Scale Output Adjust", 19 BW "Bandwidth/Noise Reduction Pin: Bypass with 0.1uF to +VA  for Optimum Performance.", 20 AGND (power) "Analog Ground", 21 I~{OUT} (out) "Complementary DAC Current Output", 22 IOUT (out) "DAC Current Output", 23 BYP "Bypass Node: Use 0.1uF to AGND", 24 +VA (power) "Analog Supply Voltage, 2.7V to 5.5V", 25 NC "No Connection", 26 DGND (power) "Digital Ground", 27 +VD (power) "Digital Supply Voltage, 2.7V to 5.5V", 28 CLK (in) "Clock Input"

## DAC900EG4
designator U?
10-Bit, 165 MSPS SpeedPlus(TM) DAC Scalable Current Outputs between 2 to 20 mA, -40 to 85 degC, 28-pin SOP (PW28), Green (RoHS & no Sb/Br); Manufacturer: Texas Instruments; PartNumber: DAC900EG4; DAC Channels: 1; DNL(Max)(+/-LSB): 0.5; Interface: Parallel CMOS; Power Consumption(Typ)(mW): 170; Resolution(Bits): 10; Settling Time(us): 0.03; SFDR(dB): 76; SubFamily: High Speed DAC (>10MSPS); DatasheetVersion: SBAS093B; PackageVersion: 4040064-7/G, 02/2011; PackageReference: PW28; PackageDescription: 28-Pin Plastic Small Outline, Body 9.7 x 4.4 mm, Pitch 0.65 mm; Supplier 1: Digi-Key; Supplier Part Number 1: DAC900EG4-ND; Supplier 2: Newark; Supplier Part Number 2: 53K9306; Supplier 3: Mouser; Supplier Part Number 3: 595-DAC900EG4; Eco-Plan: Green (RoHS & no Sb/Br); INL(Max)(+/-LSB): 1; Mounting Technology: Surface Mount; Code_JEDEC: MO-153; ComponentLink1Description: Manufacturer URL; ComponentLink1URL: http://www.ti.com/; ComponentLink2Description: Datasheet; ComponentLink2URL: http://www.ti.com/general/docs/lit/getliterature.tsp?genericPartNumber=DAC900&fileType=pdf; ComponentLink3Description: Package Specification; ComponentLink3URL: http://www.ti.com/litv/pdf/mpds364
footprint TI-PW28_N (SOP, 28-Leads, Body 9.7x4.4mm, Pitch 0.65mm, IPC Medium Density)
footprint TI-PW28_L (SOP, 28-Leads, Body 9.7x4.4mm, Pitch 0.65mm, IPC High Density)
footprint TI-PW28_M (SOP, 28-Leads, Body 9.7x4.4mm, Pitch 0.65mm, IPC Low Density)
pins: 1 BIT 1 (MSB) (in) "Data Bit 1 (D9), MSB", 2 BIT 2 (in) "Data Bit 2 (D8)", 3 BIT 3 (in) "Data Bit 3 (D7)", 4 BIT 4 (in) "Data Bit 4 (D6)", 5 BIT 5 (in) "Data Bit 5 (D5)", 6 BIT 6 (in) "Data Bit 6 (D4)", 7 BIT 7 (in) "Data Bit 7 (D3)", 8 BIT 8 (in) "Data Bit 8 (D2)", 9 BIT 9 (in) "Data Bit 9 (D1)", 10 BIT 10 (LSB) (in) "Data Bit 10 (D0), LSB", 11 NC "No Connection", 12 NC "No Connection", 13 NC "No Connection", 14 NC "No Connection", 15 PD (in) "Power Down, Control Input; Active HIGH. Contains internal pull-down circuit; may be left unconnected if not used.", 16 ~{INT}/EXT (in) "Reference Select Pin; Internal ( = 0) or External ( = 1) Reference Operation.", 17 REFIN (io) "Reference Input/Ouput. See Applications section for further details.", 18 FSA (in) "Full-Scale Output Adjust", 19 BW "Bandwidth/Noise Reduction Pin: Bypass with 0.1uF to +VA  for Optimum Performance.", 20 AGND (power) "Analog Ground", 21 I~{OUT} (out) "Complementary DAC Current Output", 22 IOUT (out) "DAC Current Output", 23 BYP "Bypass Node: Use 0.1uF to AGND", 24 +VA (power) "Analog Supply Voltage, 2.7V to 5.5V", 25 NC "No Connection", 26 DGND (power) "Digital Ground", 27 +VD (power) "Digital Supply Voltage, 2.7V to 5.5V", 28 CLK (in) "Clock Input"

## DAC900TPWRQ1
designator U?
Automotive Catalog 10-Bit, 165 MSPS SpeedPlus(TM) DAC Scalable Current Outputs between 2 to 20 mA, -40 to 125 degC, 28-pin SOP (PW28), Green (RoHS & no Sb/Br); Manufacturer: Texas Instruments; PartNumber: DAC900TPWRQ1; DAC Channels: 1; DNL(Max)(+/-LSB): 0.75; Interface: Parallel CMOS; Power Consumption(Typ)(mW): 170; Resolution(Bits): 10; Settling Time(us): 0.03; SFDR(dB): 76; SubFamily: High Speed DAC (>10MSPS); DatasheetVersion: SBAS505; PackageVersion: 4040064-7/G, 02/2011; PackageReference: PW28; PackageDescription: 28-Pin Plastic Small Outline, Body 9.7 x 4.4 mm, Pitch 0.65 mm; Supplier 1: Digi-Key; Supplier Part Number 1: 296-27706-2-ND; Supplier 2: Digi-Key; Supplier Part Number 2: 296-27706-1-ND; Supplier 3: Digi-Key; Supplier Part Number 3: 296-27706-6-ND; Supplier 4: Newark; Supplier Part Number 4: 01T0039; Supplier 5: Mouser; Supplier Part Number 5: 595-DAC900TPWRQ1; Eco-Plan: Green (RoHS & no Sb/Br); INL(Max)(+/-LSB): 1; Mounting Technology: Surface Mount; Code_JEDEC: MO-153; ComponentLink1Description: Manufacturer URL; ComponentLink1URL: http://www.ti.com/; ComponentLink2Description: Datasheet; ComponentLink2URL: http://www.ti.com/general/docs/lit/getliterature.tsp?genericPartNumber=DAC900-Q1&fileType=pdf; ComponentLink3Description: Package Specification; ComponentLink3URL: http://www.ti.com/litv/pdf/mpds364
footprint TI-PW28_N (SOP, 28-Leads, Body 9.7x4.4mm, Pitch 0.65mm, IPC Medium Density)
footprint TI-PW28_L (SOP, 28-Leads, Body 9.7x4.4mm, Pitch 0.65mm, IPC High Density)
footprint TI-PW28_M (SOP, 28-Leads, Body 9.7x4.4mm, Pitch 0.65mm, IPC Low Density)
pins: 1 BIT 1 (MSB) (in) "Data Bit 1 (D9), MSB", 2 BIT 2 (in) "Data Bit 2 (D8)", 3 BIT 3 (in) "Data Bit 3 (D7)", 4 BIT 4 (in) "Data Bit 4 (D6)", 5 BIT 5 (in) "Data Bit 5 (D5)", 6 BIT 6 (in) "Data Bit 6 (D4)", 7 BIT 7 (in) "Data Bit 7 (D3)", 8 BIT 8 (in) "Data Bit 8 (D2)", 9 BIT 9 (in) "Data Bit 9 (D1)", 10 BIT 10 (LSB) (in) "Data Bit 10 (D0), LSB", 11 NC "No Connection", 12 NC "No Connection", 13 NC "No Connection", 14 NC "No Connection", 15 PD (in) "Power Down, Control Input; Active HIGH. Contains internal pull-down circuit; may be left unconnected if not used", 16 ~{INT}/EXT (in) "Reference Select Pin; Internal ( = 0) or External ( = 1) Reference Operation.", 17 REFIN (io) "Reference Input/Ouput. See Applications section for further details.", 18 FSA (in) "Full-Scale Output Adjust", 19 BW "Bandwidth/Noise Reduction: Bypass with 0.1uF to +VA for Optimum Performance.", 20 AGND (power) "Analog Ground", 21 I~{OUT} (hiz) "Complementary DAC Current Output", 22 IOUT (hiz) "DAC Current Output", 23 BYP "Bypass Node: Use 0.1uF to AGND", 24 +VA (power) "Analog Supply Voltage, 2.7V to 5.5V", 25 NC "No Connection", 26 DGND (power) "Digital Ground", 27 +VD (power) "Digital Supply Voltage, 2.7V to 5.5V", 28 CLK (in) "Clock Input"